# Altium schematic symbol library Altium-RC.SchLib: 32 symbols
Pins are listed as number, name and electrical type; pins without a type are passive.

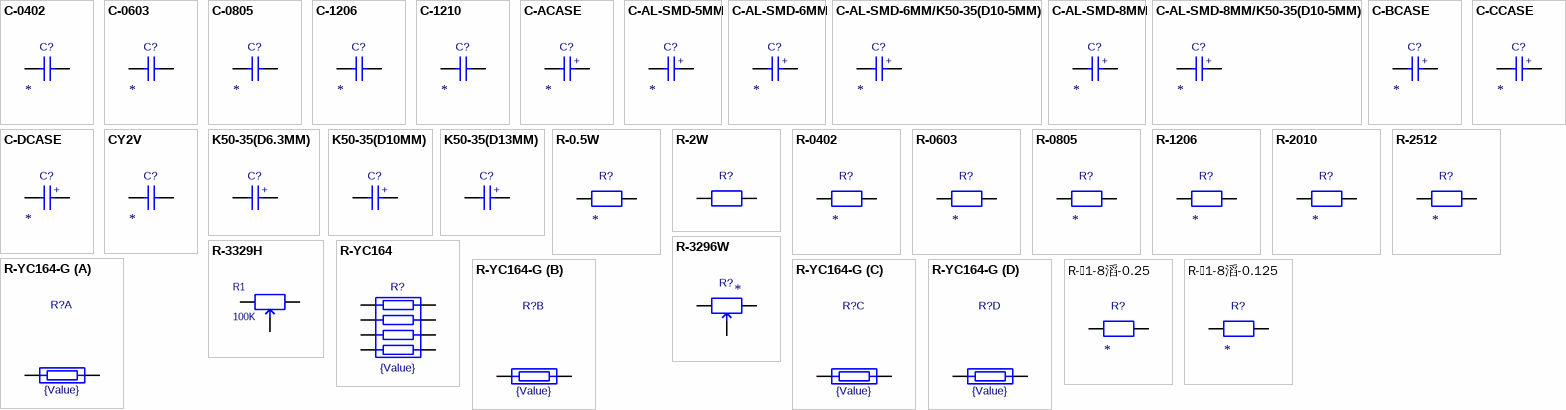
[diagram p0: symbols C-0402 to R-�1-8滔-0.125]

## C-0402
designator C?
C-0402; Value: *
footprint C-1005(0402) (Chip Capacitor, Body 1.0x0.5mm, IPC High Density)
pins: 1, 2

## C-0603
designator C?
C-0603; Value: *
footprint C-1608[0603]
pins: 1, 2

## C-0805
designator C?
C-0805; Value: *
footprint C-2012[0805]
pins: 1, 2

## C-1206
designator C?
C-1206; Value: *
footprint C-3216[1206]
pins: 1, 2

## C-1210
designator C?
C-1210; Value: *
footprint C-3225[1210]
pins: 1, 2

## C-ACASE
designator C?
C-ACASE; Value: *
footprint A-CASE
pins: 1 +, 2 -

## C-AL-SMD-5MM
designator C?
C-AL-SMD-5MM; Value: *
footprint C-AL-SMD5.0MM-5.4MM
pins: 1 +, 2 -

## C-AL-SMD-6MM
designator C?
C-AL-SMD-6MM; Value: *
footprint C-AL-SMD6.3MM-5.4MM
pins: 1 +, 2 -

## C-AL-SMD-6MM/K50-35(D10-5MM)
designator C?
C-AL-SMD-6MM/K50-35(D10-5MM); Value: *
footprint C-AL-SMD6.3MM-5.4MM/D10-5MM
pins: 1 +, 2 -

## C-AL-SMD-8MM
designator C?
C-AL-SMD-8MM; Value: *
footprint C-AL-SMD8MM-10MM
pins: 1 +, 2 -

## C-AL-SMD-8MM/K50-35(D10-5MM)
designator C?
C-AL-SMD-8MM/K50-35(D10-5MM); Value: *
footprint C-AL-SMD8MM/D10-5MM
pins: 1 +, 2 -

## C-BCASE
designator C?
C-BCASE; Value: *
footprint B-CASE
pins: 1 +, 2 -

## C-CCASE
designator C?
C-CCASE; Value: *
footprint C-CASE
pins: 1 +, 2 -

## C-DCASE
designator C?
C-DCASE; Value: *
footprint D-CASE
pins: 1 +, 2 -

## CY2V
designator C?
Ceramic Disc Capacity class Y1/Y2 pitch 9.5mm; Value: *
footprint CY2V pitch -9.5mm
pins: 1, 2

## K50-35(D6.3MM)
designator C?  (value not drawn)
K50-35(D6.3MM); Value: *
footprint D6.3-2.5MM
pins: 1 +, 2 -

## K50-35(D10MM)
designator C?  (value not drawn)
K50-35(D10MM); Value: *
footprint D10-5MM
footprint D10-5MM - gor
pins: 1 +, 2 -

## K50-35(D13MM)
designator C?  (value not drawn)
K50-35(D13MM); Value: *
footprint D13-5MM
pins: 1 +, 2 -

## R-0.5W
designator R?
C1-4 0.5W pitch 12.7mm; Value: *
footprint R-0.5W pitch - 12mm
pins: 1, 2

## R-2W
designator R?  (value not drawn)
Ñ1-4 2W; Value: *
footprint R-2W
footprint R-2W - VERT
pins: 1, 2

## R-0402
designator R?
R-0402; Value: *
footprint R-1005(0402) (Chip Resistor, Body 1.1x0.5mm, IPC High Density)
pins: 1, 2

## R-0603
designator R?
R-0603; Value: *
footprint R-1608[0603]
pins: 1, 2

## R-0805
designator R?
R-0805; Value: *
footprint R-2012[0805]
pins: 1, 2

## R-1206
designator R?
R-1206; Value: *
footprint R-3216[1206]
pins: 1, 2

## R-2010
designator R?
R-2010; Value: *
footprint R-5025[2010]
pins: 1, 2

## R-2512
designator R?
R-2512; Value: *
footprint R-6332[2512]
pins: 1, 2

## R-3296W
designator R?
Square Trimming Potentiometer, Bourns, 3296W; Value: *
footprint 3296W (Square Trimming Potentiometer, 3/8 ”)
pins: 1, 2, 3

## R-3329H
designator R1, comment 100K
Round Trimming Potentiometer, Bourns, 3329H; Value: 100K
footprint 3329H (Round Trimming Potentiometer Footprint)
pins: 1 CCW, 2 WIPER, 3 CW

## R-YC164
designator R?, comment {Value}
array x4 0605; Value: {Value}
footprint YC164
pins: 1, 2, 3, 4, 5, 6, 7, 8

## R-YC164-G
designator R?, comment {Value}
array x4 0605; Value: {Value}
footprint YC164
part A pins: 1, 8
part B pins: 2, 7
part C pins: 3, 6
part D pins: 4, 5

## R-�1-8滔-0.25
designator R?
�1-8滔 0,05% 沂�-/+5 0.25W; Value: *
footprint R-3216[1206]
pins: 1, 2

## R-�1-8滔-0.125
designator R?
�1-8滔 0,05% 沂�-/+5 0.125W; Value: *
footprint R-2012[0805]
pins: 1, 2